# Altium footprint library LP2985.PcbLib: 1 footprints
Each footprint in its own frame and in the unit in brackets; x right, y up, seen from the top. Pads: shape width x height; smd on the part's side, far side on the other; paste and mask are expansions set on the pad; w line width, h text height; cw(c..) or ccw(c..) is an arc to the next point about the centre after c.
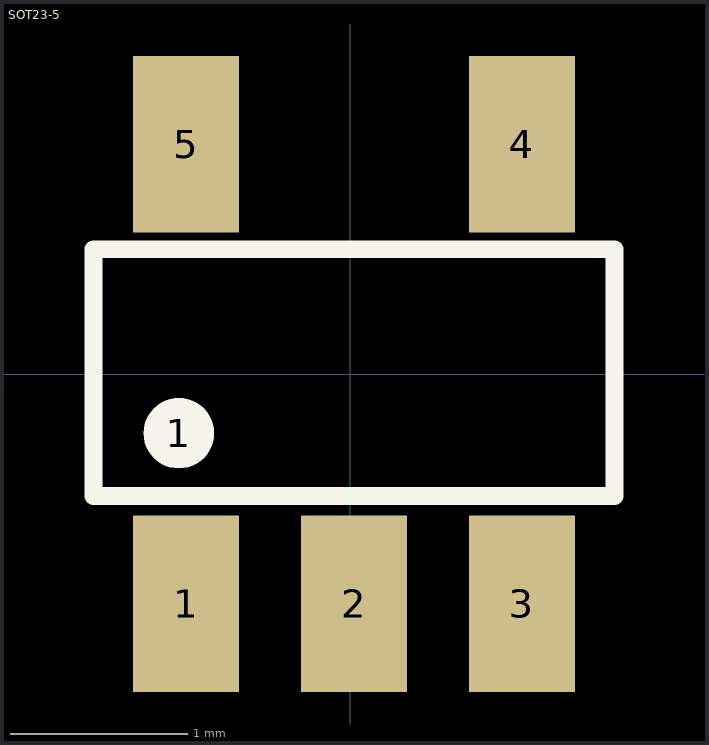
[diagram p0: the footprint, top view; thin cyan lines are the x and y axes]

## SOT23-5 [mm] "SOT143-4 as used in SP0503BAHTG"
pads (6):
  round 0.4 on Top Overlay: 1(-0.97,-0.335)
  rect 0.6x1 smd: 1(-0.93,-1.3) 2(0.02,-1.3) 3(0.97,-1.3) 4(0.97,1.3) 5(-0.93,1.3)
Top Overlay:
  lines w0.1: -1.453,-0.69 1.493,-0.69 1.493,0.707 -1.453,0.707 -1.453,-0.69
Top Designator:
  text ".Designator" at -5.998,-0.4 h1.2
3D body "SOT235.step": height 1, standoff 0, extent -1.44,-1.17 1.48,1.17